# EAGLE library part MICROFIT_43045-1009 (library BMC components)
Molex MicroFit 3.00mm Pitch Micro-Fit 3.0? Header, Surface Mount, Dual Row, Right Angle, with Solder Tab, 10 Circuits Datasheet: http://www.molex.com/pdm_docs/sd/430451009_sd.pdf Website: http://www.molex.com/molex/products/datasheet.jsp?part=active/0430451009_PCB_HEADERS.xml
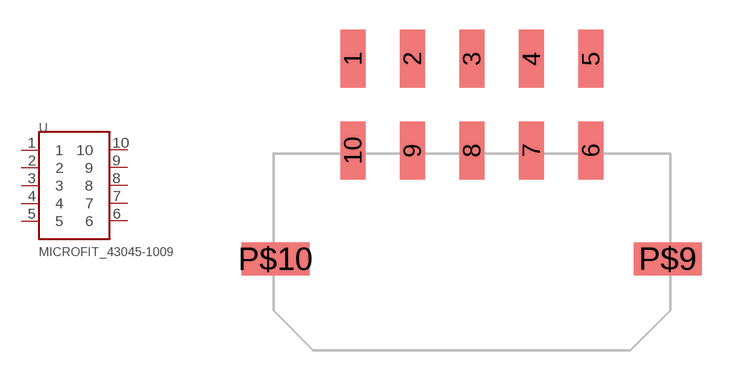
[diagram p15: symbol with the pads of MICROFIT-0430451009; footprint MICROFIT-0430451009]

Designator prefix -

## MICROFIT_43045-1009  [MICROFIT-0430451009]
1  1
2  2
3  3
4  4
5  5
6  6
7  7
8  8
9  9
10  10

## Footprint MICROFIT-0430451009 (pad centres in mm)
smd 1.27 x 2.921: 1 -6,10.1; 2 -3,10.1; 3 0,10.1; 4 3,10.1; 5 6,10.1; 6 6,5.47; 7 3,5.47; 8 0,5.47; 9 -3,5.47; 10 -6,5.47
smd 3.429 x 1.651: P$9 9.875,0; P$10 -9.895,0